# Altium integrated library CC0805KFX7R8BB105.IntLib: 1 symbol
Pins are listed as number, name and electrical type; pins without a type are passive.

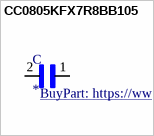
[diagram p0: symbol CC0805KFX7R8BB105]

## CC0805KFX7R8BB105
designator C
1ÂµF Â±10% 25V Ceramic Capacitor X7R 0805 (2012 Metric); MP: CC0805KFX7R8BB105; MF: Yageo; SnapEDA_Link: https://www.snapeda.com/parts/CC0805KFX7R8BB105/Yageo/view-part/1817011/?ref=snap; Mouser-Purchase-URL: https://snapeda.com/shop?store=Mouser&id=1817011; Price: None; Availability: Good; Package: 0805 Yageo; Value: *; Arrow_Electronics-Purchase-URL: https://snapeda.com/shop?store=Arrow+Electronics&id=1817011; BuyPart: https://www.snapeda.com/parts/CC0805KFX7R8BB105/Yageo/view-part/1817011/?ref=eda
footprint CAPC2012X70
pins: 1, 2